# Altium integrated library Actel eX.IntLib: 55 symbols (part 3 of 3)
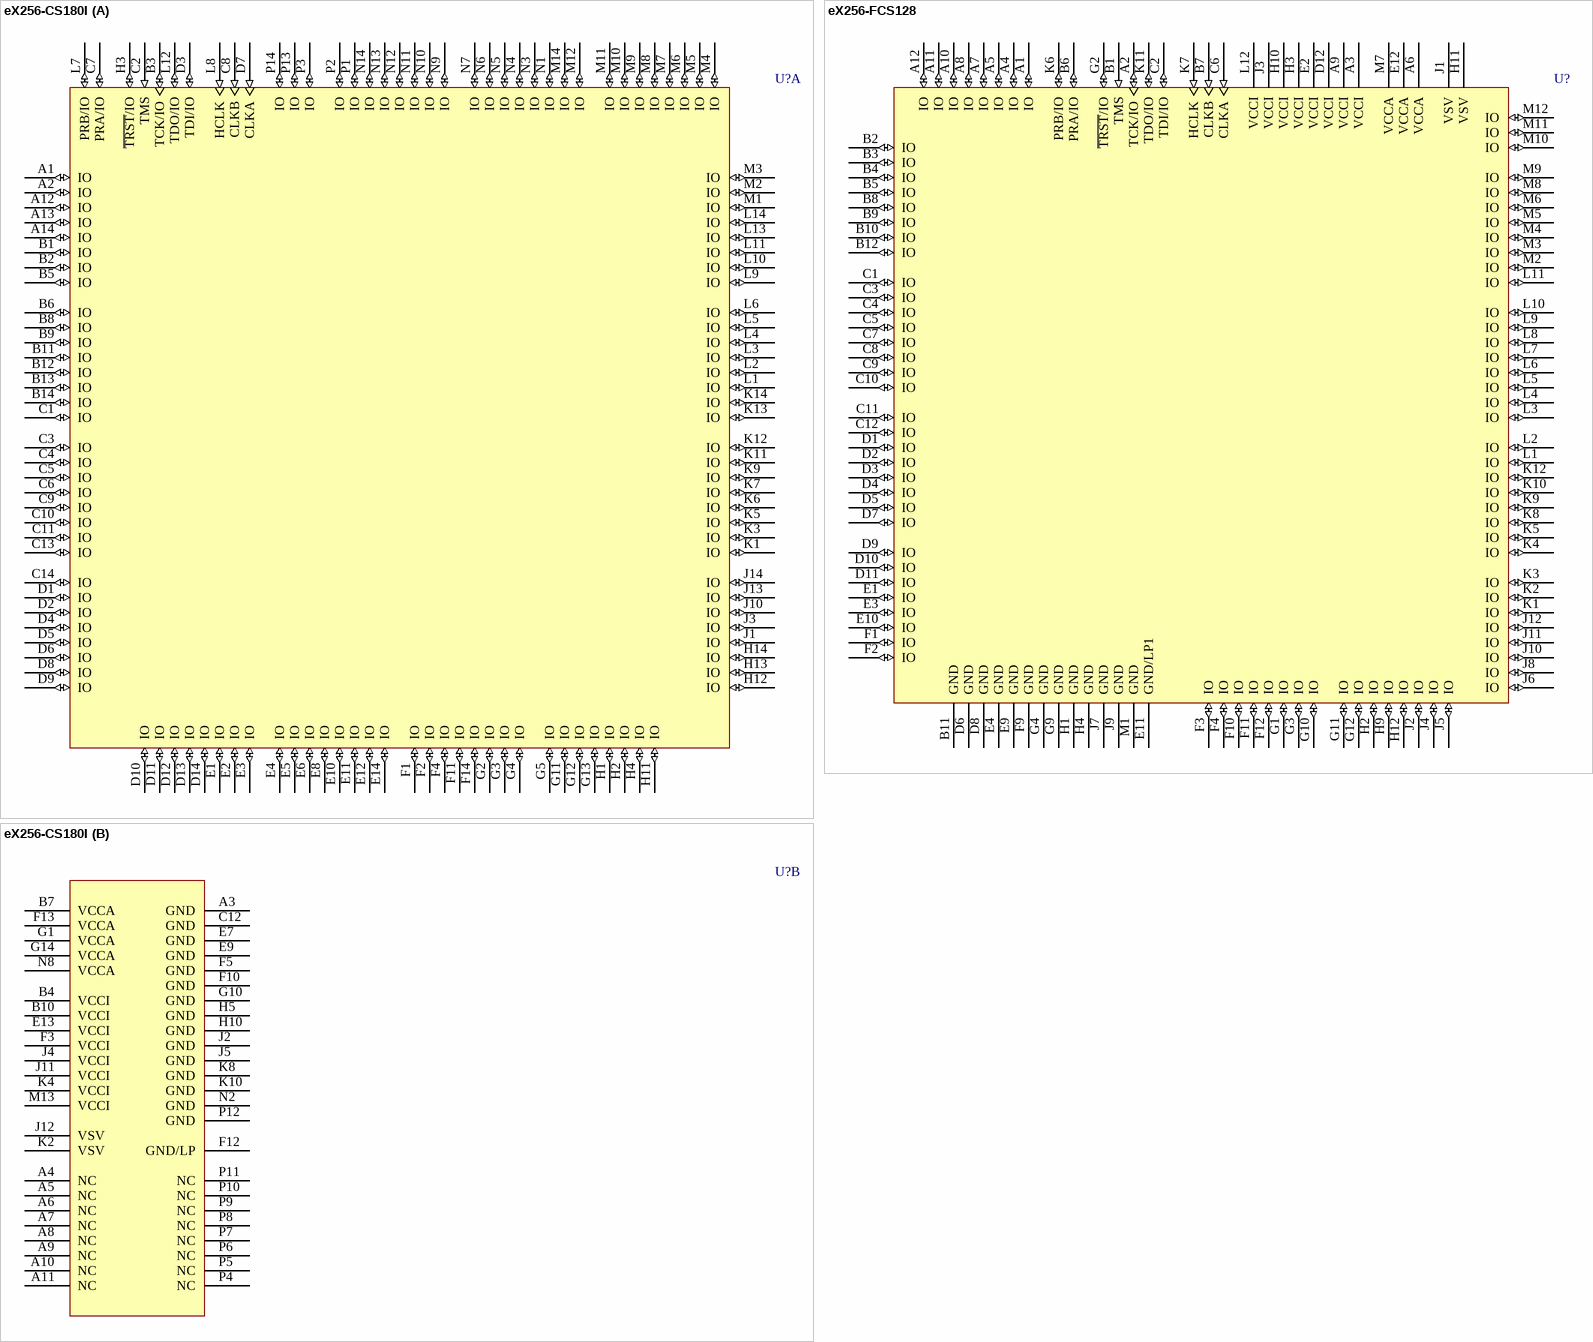
[diagram p17: symbols eX256-CS180I to eX256-FCS128]

## eX256-CS180I
designator U?
eX256 FPGA, 132 User IOs, 180-Pin CSP, Speed Grade Standard, Industrial Grade; Note: The VSV pin can be tied to VCCA or VCCI but cannot exceed 3.6V.; Note: If the security fuse is programmed, the VSV limit is extended to 6.0V.; Published: 21-May-2003; LatestRevisionDate: 13-Apr-2006; LatestRevisionNote: IPC-7351 Footprint Added.; DatasheetVersion: Dec-2001; PackageVersion: v9.2, Apr-2006; PackageReference: CS180; Publisher: Altium Limited; PackageDescription: 180-Ball Chip Scale Package (CS180); Code_JEDEC: MO-205-BF; ComponentLink1Description: Manufacturer Link; ComponentLink1URL: http://www.actel.com/products/ex/index.html; ComponentLink2Description: Datasheet; ComponentLink2URL: http://www.actel.com/documents/eXDS.pdf
footprint CS180 (BGA, 180-Leads, Body 13x13mm, Pitch 0.8mm)
3D model eX256-CS180 (180-Ball Chip Scale Package (CS180))
part A pins: A1 IO (io), A2 IO (io), A12 IO (io), A13 IO (io), A14 IO (io), B1 IO (io), B2 IO (io), B3 TCK/IO (io), B5 IO (io), B6 IO (io), B8 IO (io), B9 IO (io), B11 IO (io), B12 IO (io), B13 IO (io), B14 IO (io), C1 IO (io), C2 TMS (in), C3 IO (io), C4 IO (io), C5 IO (io), C6 IO (io), C7 PRA/IO (io), C8 CLKB (in), C9 IO (io), C10 IO (io), C11 IO (io), C13 IO (io), C14 IO (io), D1 IO (io), D2 IO (io), D3 TDI/IO (io), D4 IO (io), D5 IO (io), D6 IO (io), D7 CLKA (in), D8 IO (io), D9 IO (io), D10 IO (io), D11 IO (io), D12 IO (io), D13 IO (io), D14 IO (io), E1 IO (io), E2 IO (io), E3 IO (io), E4 IO (io), E5 IO (io), E6 IO (io), E8 IO (io), E10 IO (io), E11 IO (io), E12 IO (io), E14 IO (io), F1 IO (io), F2 IO (io), F4 IO (io), F11 IO (io), F14 IO (io), G2 IO (io), G3 IO (io), G4 IO (io), G5 IO (io), G11 IO (io), G12 IO (io), G13 IO (io), H1 IO (io), H2 IO (io), H3 ~{TRST}/IO (io), H4 IO (io), H11 IO (io), H12 IO (io), H13 IO (io), H14 IO (io), J1 IO (io), J3 IO (io), J10 IO (io), J13 IO (io), J14 IO (io), K1 IO (io), K3 IO (io), K5 IO (io), K6 IO (io), K7 IO (io), K9 IO (io), K11 IO (io), K12 IO (io), K13 IO (io), K14 IO (io), L1 IO (io), L2 IO (io), L3 IO (io), L4 IO (io), L5 IO (io), L6 IO (io), L7 PRB/IO (io), L8 HCLK (in), L9 IO (io), L10 IO (io), L11 IO (io), L12 TDO/IO (io), L13 IO (io), L14 IO (io), M1 IO (io), M2 IO (io), M3 IO (io), M4 IO (io), M5 IO (io), M6 IO (io), M7 IO (io), M8 IO (io), M9 IO (io), M10 IO (io), M11 IO (io), M12 IO (io), M14 IO (io), N1 IO (io), N3 IO (io), N4 IO (io), N5 IO (io), N6 IO (io), N7 IO (io), N9 IO (io), N10 IO (io), N11 IO (io), N12 IO (io), N13 IO (io), N14 IO (io), P1 IO (io), P2 IO (io), P3 IO (io), P13 IO (io), P14 IO (io)
part B pins: A3 GND (power), A4 NC, A5 NC, A6 NC, A7 NC, A8 NC, A9 NC, A10 NC, A11 NC, B4 VCCI (power), B7 VCCA (power), B10 VCCI (power), C12 GND (power), E7 GND (power), E9 GND (power), E13 VCCI (power), F3 VCCI (power), F5 GND (power), F10 GND (power), F12 GND/LP (power), F13 VCCA (power), G1 VCCA (power), G10 GND (power), G14 VCCA (power), H5 GND (power), H10 GND (power), J2 GND (power), J4 VCCI (power), J5 GND (power), J11 VCCI (power), J12 VSV (power), K2 VSV (power), K4 VCCI (power), K8 GND (power), K10 GND (power), M13 VCCI (power), N2 GND (power), N8 VCCA (power), P4 NC, P5 NC, P6 NC, P7 NC, P8 NC, P9 NC, P10 NC, P11 NC, P12 GND (power)

## eX256-FCS128
designator U?
eX256 FPGA, 100 User IOs, 128-Pin CSP, Speed Grade F, Commercial Grade; Note: The VSV pin can be tied to VCCA or VCCI but cannot exceed 3.6V.; Note: If the security fuse is programmed, the VSV limit is extended to 6.0V.; Published: 21-May-2003; LatestRevisionDate: 13-Apr-2006; LatestRevisionNote: IPC-7351 Footprint Added.; DatasheetVersion: Dec-2001; PackageVersion: v9.2, Apr-2006; PackageReference: CS128; Publisher: Altium Limited; PackageDescription: 128-Ball Chip Scale Package (CS128); Code_JEDEC: MO-205-BD; ComponentLink1Description: Manufacturer Link; ComponentLink1URL: http://www.actel.com/products/ex/index.html; ComponentLink2Description: Datasheet; ComponentLink2URL: http://www.actel.com/documents/eXDS.pdf
footprint CS128 (BGA, 128-Leads, Body 11x11mm, Pitch 0.8mm)
3D model eX256-CS128 (128-Ball Chip Scale Package (CS128))
pins: A1 IO (io), A2 TCK/IO (io), A3 VCCI (power), A4 IO (io), A5 IO (io), A6 VCCA (power), A7 IO (io), A8 IO (io), A9 VCCI (power), A10 IO (io), A11 IO (io), A12 IO (io), B1 TMS (in), B2 IO (io), B3 IO (io), B4 IO (io), B5 IO (io), B6 PRA/IO (io), B7 CLKB (in), B8 IO (io), B9 IO (io), B10 IO (io), B11 GND (power), B12 IO (io), C1 IO (io), C2 TDI/IO (io), C3 IO (io), C4 IO (io), C5 IO (io), C6 CLKA (in), C7 IO (io), C8 IO (io), C9 IO (io), C10 IO (io), C11 IO (io), C12 IO (io), D1 IO (io), D2 IO (io), D3 IO (io), D4 IO (io), D5 IO (io), D6 GND (power), D7 IO (io), D8 GND (power), D9 IO (io), D10 IO (io), D11 IO (io), D12 VCCI (power), E1 IO (io), E2 VCCI (power), E3 IO (io), E4 GND (power), E9 GND (power), E10 IO (io), E11 GND/LP1 (power), E12 VCCA (power), F1 IO (io), F2 IO (io), F3 IO (io), F4 IO (io), F9 GND (power), F10 IO (io), F11 IO (io), F12 IO (io), G1 IO (io), G2 ~{TRST}/IO (io), G3 IO (io), G4 GND (power), G9 GND (power), G10 IO (io), G11 IO (io), G12 IO (io), H1 GND (power), H2 IO (io), H3 VCCI (power), H4 GND (power), H9 IO (io), H10 VCCI (power), H11 VSV (power), H12 IO (io), J1 VSV (power), J2 IO (io), J3 VCCI (power), J4 IO (io), J5 IO (io), J6 IO (io), J7 GND (power), J8 IO (io), J9 GND (power), J10 IO (io), J11 IO (io), J12 IO (io), K1 IO (io), K2 IO (io), K3 IO (io), K4 IO (io), K5 IO (io), K6 PRB/IO (io), K7 HCLK (in), K8 IO (io), K9 IO (io), K10 IO (io), K11 TDO/IO (io), K12 IO (io), L1 IO (io), L2 IO (io), L3 IO (io), L4 IO (io), L5 IO (io), L6 IO (io), L7 IO (io), L8 IO (io), L9 IO (io), L10 IO (io), L11 IO (io), L12 VCCI (power), M1 GND (power), M2 IO (io), M3 IO (io), M4 IO (io), M5 IO (io), M6 IO (io), M7 VCCA (power), M8 IO (io), M9 IO (io), M10 IO (io), M11 IO (io), M12 IO (io)

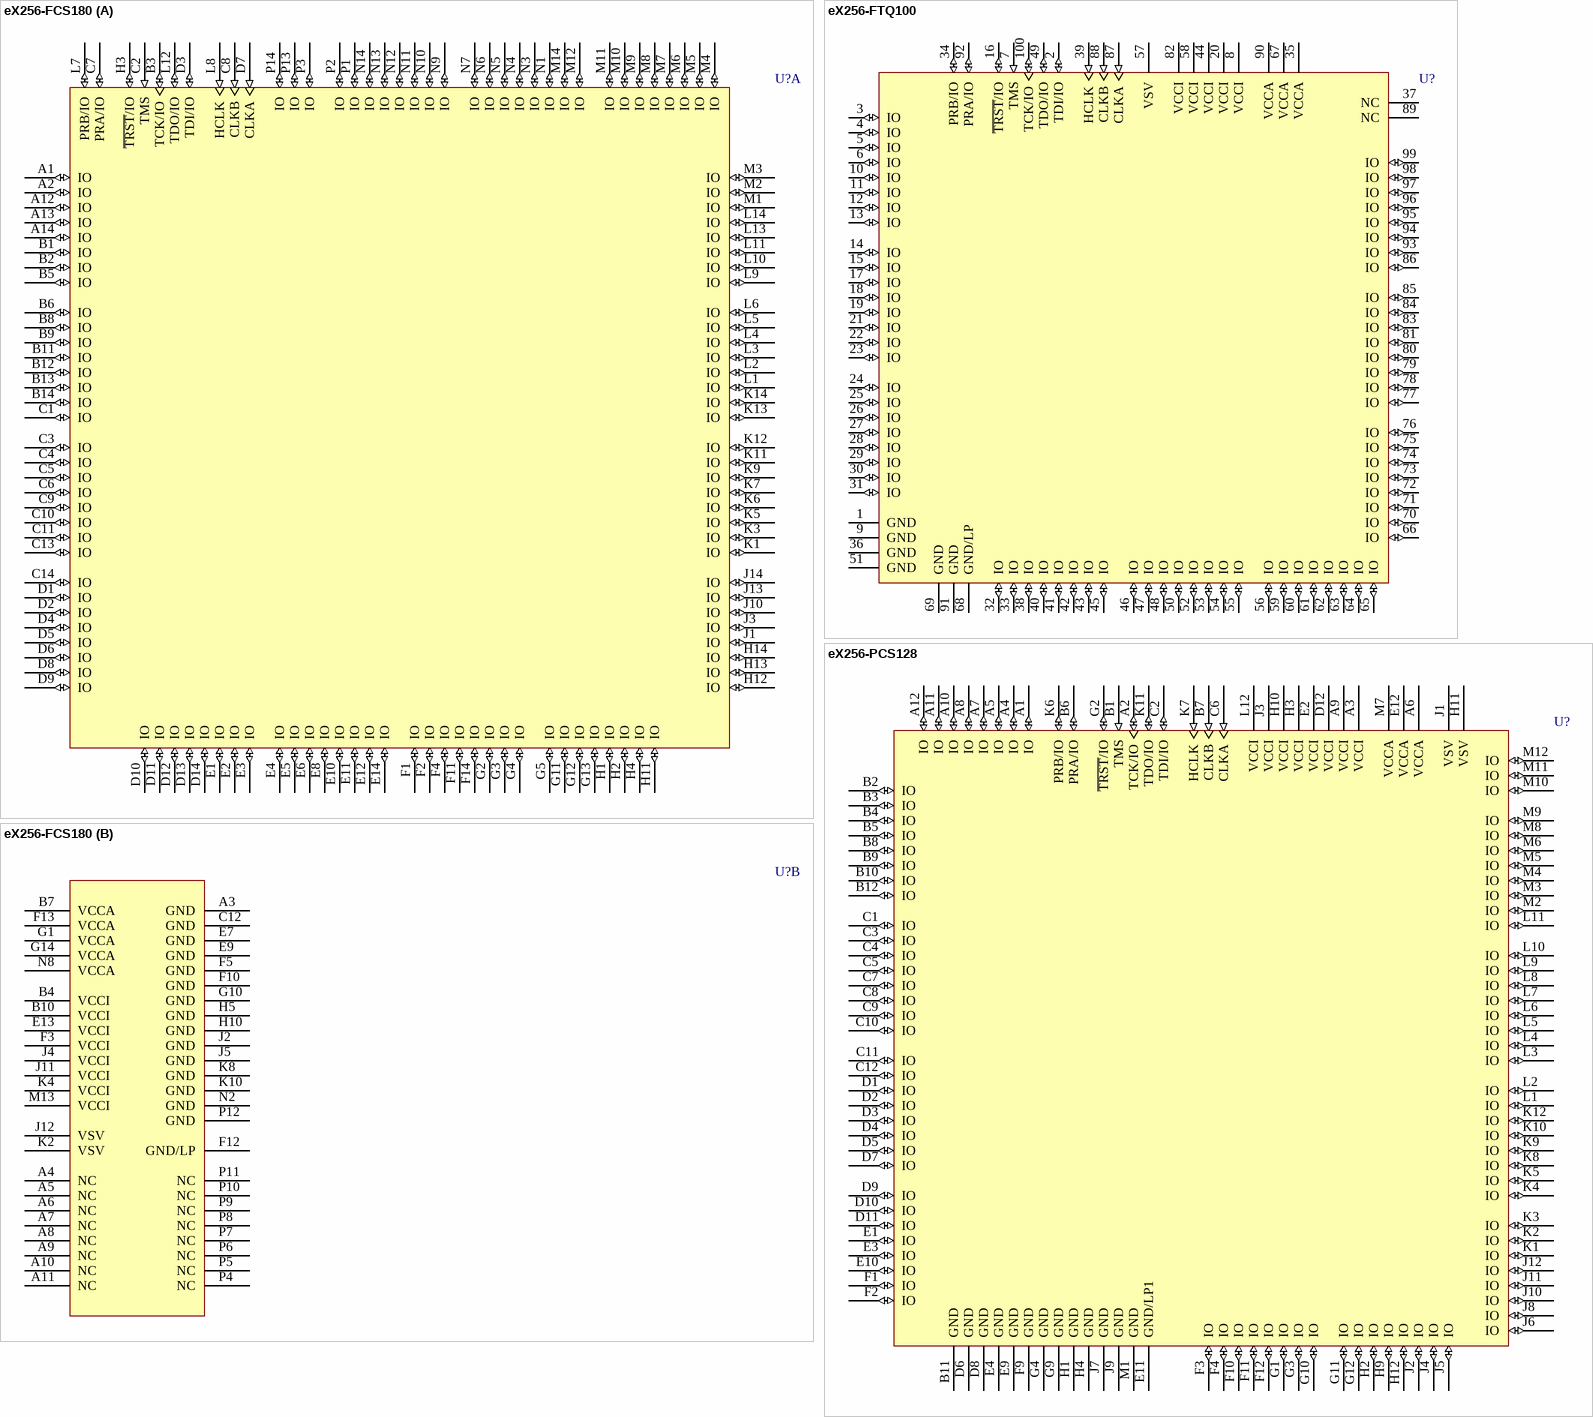
[diagram p13: symbols eX256-FCS180 to eX256-PCS128]

## eX256-FCS180
designator U?
eX256 FPGA, 132 User IOs, 180-Pin CSP, Speed Grade F, Commercial Grade; Note: The VSV pin can be tied to VCCA or VCCI but cannot exceed 3.6V.; Note: If the security fuse is programmed, the VSV limit is extended to 6.0V.; Published: 21-May-2003; LatestRevisionDate: 13-Apr-2006; LatestRevisionNote: IPC-7351 Footprint Added.; DatasheetVersion: Dec-2001; PackageVersion: v9.2, Apr-2006; PackageReference: CS180; Publisher: Altium Limited; PackageDescription: 180-Ball Chip Scale Package (CS180); Code_JEDEC: MO-205-BF; ComponentLink1Description: Manufacturer Link; ComponentLink1URL: http://www.actel.com/products/ex/index.html; ComponentLink2Description: Datasheet; ComponentLink2URL: http://www.actel.com/documents/eXDS.pdf
footprint CS180 (BGA, 180-Leads, Body 13x13mm, Pitch 0.8mm)
3D model eX256-CS180 (180-Ball Chip Scale Package (CS180))
part A pins: A1 IO (io), A2 IO (io), A12 IO (io), A13 IO (io), A14 IO (io), B1 IO (io), B2 IO (io), B3 TCK/IO (io), B5 IO (io), B6 IO (io), B8 IO (io), B9 IO (io), B11 IO (io), B12 IO (io), B13 IO (io), B14 IO (io), C1 IO (io), C2 TMS (in), C3 IO (io), C4 IO (io), C5 IO (io), C6 IO (io), C7 PRA/IO (io), C8 CLKB (in), C9 IO (io), C10 IO (io), C11 IO (io), C13 IO (io), C14 IO (io), D1 IO (io), D2 IO (io), D3 TDI/IO (io), D4 IO (io), D5 IO (io), D6 IO (io), D7 CLKA (in), D8 IO (io), D9 IO (io), D10 IO (io), D11 IO (io), D12 IO (io), D13 IO (io), D14 IO (io), E1 IO (io), E2 IO (io), E3 IO (io), E4 IO (io), E5 IO (io), E6 IO (io), E8 IO (io), E10 IO (io), E11 IO (io), E12 IO (io), E14 IO (io), F1 IO (io), F2 IO (io), F4 IO (io), F11 IO (io), F14 IO (io), G2 IO (io), G3 IO (io), G4 IO (io), G5 IO (io), G11 IO (io), G12 IO (io), G13 IO (io), H1 IO (io), H2 IO (io), H3 ~{TRST}/IO (io), H4 IO (io), H11 IO (io), H12 IO (io), H13 IO (io), H14 IO (io), J1 IO (io), J3 IO (io), J10 IO (io), J13 IO (io), J14 IO (io), K1 IO (io), K3 IO (io), K5 IO (io), K6 IO (io), K7 IO (io), K9 IO (io), K11 IO (io), K12 IO (io), K13 IO (io), K14 IO (io), L1 IO (io), L2 IO (io), L3 IO (io), L4 IO (io), L5 IO (io), L6 IO (io), L7 PRB/IO (io), L8 HCLK (in), L9 IO (io), L10 IO (io), L11 IO (io), L12 TDO/IO (io), L13 IO (io), L14 IO (io), M1 IO (io), M2 IO (io), M3 IO (io), M4 IO (io), M5 IO (io), M6 IO (io), M7 IO (io), M8 IO (io), M9 IO (io), M10 IO (io), M11 IO (io), M12 IO (io), M14 IO (io), N1 IO (io), N3 IO (io), N4 IO (io), N5 IO (io), N6 IO (io), N7 IO (io), N9 IO (io), N10 IO (io), N11 IO (io), N12 IO (io), N13 IO (io), N14 IO (io), P1 IO (io), P2 IO (io), P3 IO (io), P13 IO (io), P14 IO (io)
part B pins: A3 GND (power), A4 NC, A5 NC, A6 NC, A7 NC, A8 NC, A9 NC, A10 NC, A11 NC, B4 VCCI (power), B7 VCCA (power), B10 VCCI (power), C12 GND (power), E7 GND (power), E9 GND (power), E13 VCCI (power), F3 VCCI (power), F5 GND (power), F10 GND (power), F12 GND/LP (power), F13 VCCA (power), G1 VCCA (power), G10 GND (power), G14 VCCA (power), H5 GND (power), H10 GND (power), J2 GND (power), J4 VCCI (power), J5 GND (power), J11 VCCI (power), J12 VSV (power), K2 VSV (power), K4 VCCI (power), K8 GND (power), K10 GND (power), M13 VCCI (power), N2 GND (power), N8 VCCA (power), P4 NC, P5 NC, P6 NC, P7 NC, P8 NC, P9 NC, P10 NC, P11 NC, P12 GND (power)

## eX256-FTQ100
designator U?
eX256 FPGA, 81 User IOs, 100-Pin TQFP, Speed Grade F, Commercial Grade; Note: The VSV pin can be tied to VCCA or VCCI but cannot exceed 3.6V.; Note: If the security fuse is programmed, the VSV limit is extended to 6.0V.; Published: 21-May-2003; LatestRevisionDate: 13-Apr-2006; LatestRevisionNote: IPC-7351 Footprint Added.; DatasheetVersion: Dec-2001; PackageVersion: v9.2, Apr-2006; PackageReference: TQ100; Publisher: Altium Limited; PackageDescription: 100-Pin Plastic Quad Flat Pack (TQ100); Code_JEDEC: MS-026-BED; ComponentLink1Description: Manufacturer Link; ComponentLink1URL: http://www.actel.com/products/ex/index.html; ComponentLink2Description: Datasheet; ComponentLink2URL: http://www.actel.com/documents/eXDS.pdf
footprint TQ100_N (Thin QFP, 100-Leads, Body 14x14mm, Pitch 0.5mm, IPC Medium Density)
footprint TQ100_L (Thin QFP, 100-Leads, Body 14x14mm, Pitch 0.5mm, IPC High Density)
footprint TQ100_M (Thin QFP, 100-Leads, Body 14x14mm, Pitch 0.5mm, IPC Low Density)
3D model eX256-TQ100 (100-Pin Plastic Quad Flat Pack (TQ100))
pins: 1 GND (power), 2 TDI/IO (io), 3 IO (io), 4 IO (io), 5 IO (io), 6 IO (io), 7 TMS (in), 8 VCCI (power), 9 GND (power), 10 IO (io), 11 IO (io), 12 IO (io), 13 IO (io), 14 IO (io), 15 IO (io), 16 ~{TRST}/IO (io), 17 IO (io), 18 IO (io), 19 IO (io), 20 VCCI (power), 21 IO (io), 22 IO (io), 23 IO (io), 24 IO (io), 25 IO (io), 26 IO (io), 27 IO (io), 28 IO (io), 29 IO (io), 30 IO (io), 31 IO (io), 32 IO (io), 33 IO (io), 34 PRB/IO (io), 35 VCCA (power), 36 GND (power), 37 NC, 38 IO (io), 39 HCLK (in), 40 IO (io), 41 IO (io), 42 IO (io), 43 IO (io), 44 VCCI (power), 45 IO (io), 46 IO (io), 47 IO (io), 48 IO (io), 49 TDO/IO (io), 50 IO (io), 51 GND (power), 52 IO (io), 53 IO (io), 54 IO (io), 55 IO (io), 56 IO (io), 57 VSV (power), 58 VCCI (power), 59 IO (io), 60 IO (io), 61 IO (io), 62 IO (io), 63 IO (io), 64 IO (io), 65 IO (io), 66 IO (io), 67 VCCA (power), 68 GND/LP (power), 69 GND (power), 70 IO (io), 71 IO (io), 72 IO (io), 73 IO (io), 74 IO (io), 75 IO (io), 76 IO (io), 77 IO (io), 78 IO (io), 79 IO (io), 80 IO (io), 81 IO (io), 82 VCCI (power), 83 IO (io), 84 IO (io), 85 IO (io), 86 IO (io), 87 CLKA (in), 88 CLKB (in), 89 NC, 90 VCCA (power), 91 GND (power), 92 PRA/IO (io), 93 IO (io), 94 IO (io), 95 IO (io), 96 IO (io), 97 IO (io), 98 IO (io), 99 IO (io), 100 TCK/IO (io)

## eX256-PCS128
designator U?
eX256 FPGA, 100 User IOs, 128-Pin CSP, Speed Grade P, Commercial Grade; Note: The VSV pin can be tied to VCCA or VCCI but cannot exceed 3.6V.; Note: If the security fuse is programmed, the VSV limit is extended to 6.0V.; Published: 21-May-2003; LatestRevisionDate: 13-Apr-2006; LatestRevisionNote: IPC-7351 Footprint Added.; DatasheetVersion: Dec-2001; PackageVersion: v9.2, Apr-2006; PackageReference: CS128; Publisher: Altium Limited; PackageDescription: 128-Ball Chip Scale Package (CS128); Code_JEDEC: MO-205-BD; ComponentLink1Description: Manufacturer Link; ComponentLink1URL: http://www.actel.com/products/ex/index.html; ComponentLink2Description: Datasheet; ComponentLink2URL: http://www.actel.com/documents/eXDS.pdf
footprint CS128 (BGA, 128-Leads, Body 11x11mm, Pitch 0.8mm)
3D model eX256-CS128 (128-Ball Chip Scale Package (CS128))
pins: A1 IO (io), A2 TCK/IO (io), A3 VCCI (power), A4 IO (io), A5 IO (io), A6 VCCA (power), A7 IO (io), A8 IO (io), A9 VCCI (power), A10 IO (io), A11 IO (io), A12 IO (io), B1 TMS (in), B2 IO (io), B3 IO (io), B4 IO (io), B5 IO (io), B6 PRA/IO (io), B7 CLKB (in), B8 IO (io), B9 IO (io), B10 IO (io), B11 GND (power), B12 IO (io), C1 IO (io), C2 TDI/IO (io), C3 IO (io), C4 IO (io), C5 IO (io), C6 CLKA (in), C7 IO (io), C8 IO (io), C9 IO (io), C10 IO (io), C11 IO (io), C12 IO (io), D1 IO (io), D2 IO (io), D3 IO (io), D4 IO (io), D5 IO (io), D6 GND (power), D7 IO (io), D8 GND (power), D9 IO (io), D10 IO (io), D11 IO (io), D12 VCCI (power), E1 IO (io), E2 VCCI (power), E3 IO (io), E4 GND (power), E9 GND (power), E10 IO (io), E11 GND/LP1 (power), E12 VCCA (power), F1 IO (io), F2 IO (io), F3 IO (io), F4 IO (io), F9 GND (power), F10 IO (io), F11 IO (io), F12 IO (io), G1 IO (io), G2 ~{TRST}/IO (io), G3 IO (io), G4 GND (power), G9 GND (power), G10 IO (io), G11 IO (io), G12 IO (io), H1 GND (power), H2 IO (io), H3 VCCI (power), H4 GND (power), H9 IO (io), H10 VCCI (power), H11 VSV (power), H12 IO (io), J1 VSV (power), J2 IO (io), J3 VCCI (power), J4 IO (io), J5 IO (io), J6 IO (io), J7 GND (power), J8 IO (io), J9 GND (power), J10 IO (io), J11 IO (io), J12 IO (io), K1 IO (io), K2 IO (io), K3 IO (io), K4 IO (io), K5 IO (io), K6 PRB/IO (io), K7 HCLK (in), K8 IO (io), K9 IO (io), K10 IO (io), K11 TDO/IO (io), K12 IO (io), L1 IO (io), L2 IO (io), L3 IO (io), L4 IO (io), L5 IO (io), L6 IO (io), L7 IO (io), L8 IO (io), L9 IO (io), L10 IO (io), L11 IO (io), L12 VCCI (power), M1 GND (power), M2 IO (io), M3 IO (io), M4 IO (io), M5 IO (io), M6 IO (io), M7 VCCA (power), M8 IO (io), M9 IO (io), M10 IO (io), M11 IO (io), M12 IO (io)

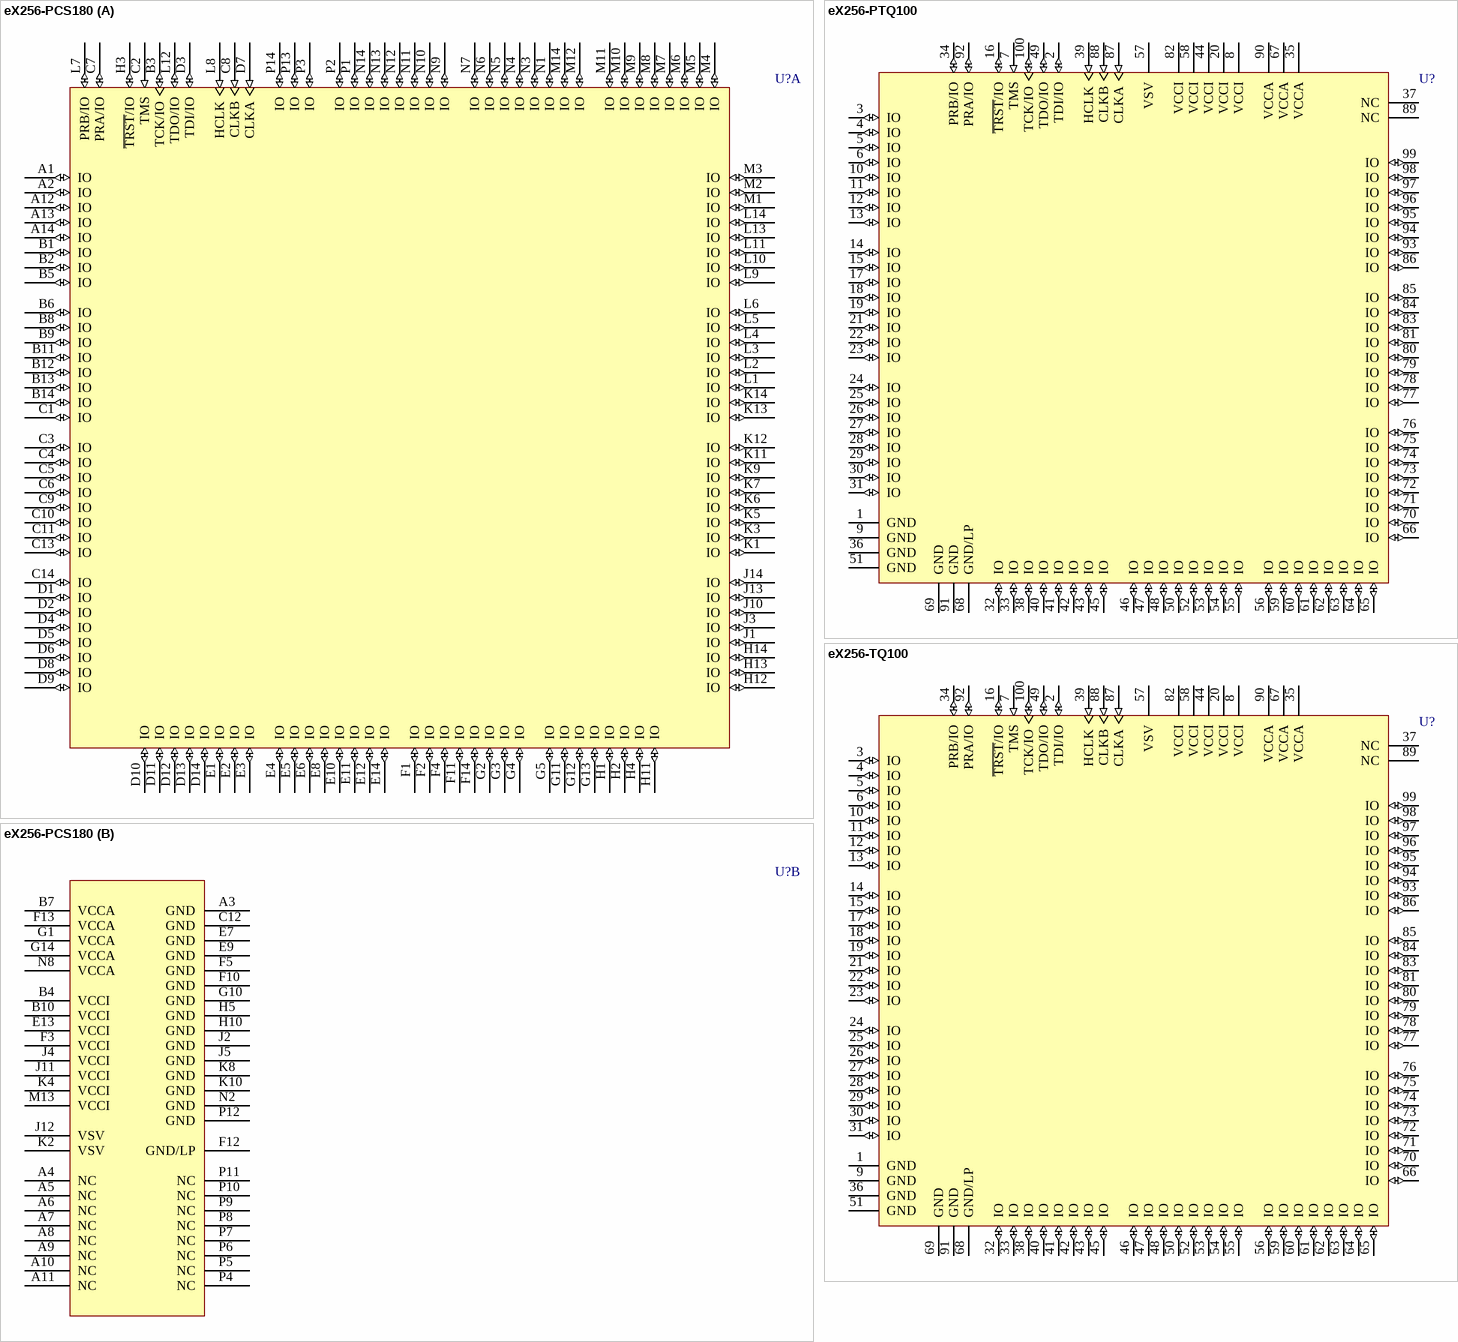
[diagram p14: symbols eX256-PCS180 to eX256-TQ100]

## eX256-PCS180
designator U?
eX256 FPGA, 132 User IOs, 180-Pin CSP, Speed Grade P, Commercial Grade; Note: The VSV pin can be tied to VCCA or VCCI but cannot exceed 3.6V.; Note: If the security fuse is programmed, the VSV limit is extended to 6.0V.; Published: 21-May-2003; LatestRevisionDate: 13-Apr-2006; LatestRevisionNote: IPC-7351 Footprint Added.; DatasheetVersion: Dec-2001; PackageVersion: v9.2, Apr-2006; PackageReference: CS180; Publisher: Altium Limited; PackageDescription: 180-Ball Chip Scale Package (CS180); Code_JEDEC: MO-205-BF; ComponentLink1Description: Manufacturer Link; ComponentLink1URL: http://www.actel.com/products/ex/index.html; ComponentLink2Description: Datasheet; ComponentLink2URL: http://www.actel.com/documents/eXDS.pdf
footprint CS180 (BGA, 180-Leads, Body 13x13mm, Pitch 0.8mm)
3D model eX256-CS180 (180-Ball Chip Scale Package (CS180))
part A pins: A1 IO (io), A2 IO (io), A12 IO (io), A13 IO (io), A14 IO (io), B1 IO (io), B2 IO (io), B3 TCK/IO (io), B5 IO (io), B6 IO (io), B8 IO (io), B9 IO (io), B11 IO (io), B12 IO (io), B13 IO (io), B14 IO (io), C1 IO (io), C2 TMS (in), C3 IO (io), C4 IO (io), C5 IO (io), C6 IO (io), C7 PRA/IO (io), C8 CLKB (in), C9 IO (io), C10 IO (io), C11 IO (io), C13 IO (io), C14 IO (io), D1 IO (io), D2 IO (io), D3 TDI/IO (io), D4 IO (io), D5 IO (io), D6 IO (io), D7 CLKA (in), D8 IO (io), D9 IO (io), D10 IO (io), D11 IO (io), D12 IO (io), D13 IO (io), D14 IO (io), E1 IO (io), E2 IO (io), E3 IO (io), E4 IO (io), E5 IO (io), E6 IO (io), E8 IO (io), E10 IO (io), E11 IO (io), E12 IO (io), E14 IO (io), F1 IO (io), F2 IO (io), F4 IO (io), F11 IO (io), F14 IO (io), G2 IO (io), G3 IO (io), G4 IO (io), G5 IO (io), G11 IO (io), G12 IO (io), G13 IO (io), H1 IO (io), H2 IO (io), H3 ~{TRST}/IO (io), H4 IO (io), H11 IO (io), H12 IO (io), H13 IO (io), H14 IO (io), J1 IO (io), J3 IO (io), J10 IO (io), J13 IO (io), J14 IO (io), K1 IO (io), K3 IO (io), K5 IO (io), K6 IO (io), K7 IO (io), K9 IO (io), K11 IO (io), K12 IO (io), K13 IO (io), K14 IO (io), L1 IO (io), L2 IO (io), L3 IO (io), L4 IO (io), L5 IO (io), L6 IO (io), L7 PRB/IO (io), L8 HCLK (in), L9 IO (io), L10 IO (io), L11 IO (io), L12 TDO/IO (io), L13 IO (io), L14 IO (io), M1 IO (io), M2 IO (io), M3 IO (io), M4 IO (io), M5 IO (io), M6 IO (io), M7 IO (io), M8 IO (io), M9 IO (io), M10 IO (io), M11 IO (io), M12 IO (io), M14 IO (io), N1 IO (io), N3 IO (io), N4 IO (io), N5 IO (io), N6 IO (io), N7 IO (io), N9 IO (io), N10 IO (io), N11 IO (io), N12 IO (io), N13 IO (io), N14 IO (io), P1 IO (io), P2 IO (io), P3 IO (io), P13 IO (io), P14 IO (io)
part B pins: A3 GND (power), A4 NC, A5 NC, A6 NC, A7 NC, A8 NC, A9 NC, A10 NC, A11 NC, B4 VCCI (power), B7 VCCA (power), B10 VCCI (power), C12 GND (power), E7 GND (power), E9 GND (power), E13 VCCI (power), F3 VCCI (power), F5 GND (power), F10 GND (power), F12 GND/LP (power), F13 VCCA (power), G1 VCCA (power), G10 GND (power), G14 VCCA (power), H5 GND (power), H10 GND (power), J2 GND (power), J4 VCCI (power), J5 GND (power), J11 VCCI (power), J12 VSV (power), K2 VSV (power), K4 VCCI (power), K8 GND (power), K10 GND (power), M13 VCCI (power), N2 GND (power), N8 VCCA (power), P4 NC, P5 NC, P6 NC, P7 NC, P8 NC, P9 NC, P10 NC, P11 NC, P12 GND (power)

## eX256-PTQ100
designator U?
eX256 FPGA, 81 User IOs, 100-Pin TQFP, Speed Grade P, Commercial Grade; Note: The VSV pin can be tied to VCCA or VCCI but cannot exceed 3.6V.; Note: If the security fuse is programmed, the VSV limit is extended to 6.0V.; Published: 21-May-2003; LatestRevisionDate: 13-Apr-2006; LatestRevisionNote: IPC-7351 Footprint Added.; DatasheetVersion: Dec-2001; PackageVersion: v9.2, Apr-2006; PackageReference: TQ100; Publisher: Altium Limited; PackageDescription: 100-Pin Plastic Quad Flat Pack (TQ100); Code_JEDEC: MS-026-BED; ComponentLink1Description: Manufacturer Link; ComponentLink1URL: http://www.actel.com/products/ex/index.html; ComponentLink2Description: Datasheet; ComponentLink2URL: http://www.actel.com/documents/eXDS.pdf
footprint TQ100_N (Thin QFP, 100-Leads, Body 14x14mm, Pitch 0.5mm, IPC Medium Density)
footprint TQ100_L (Thin QFP, 100-Leads, Body 14x14mm, Pitch 0.5mm, IPC High Density)
footprint TQ100_M (Thin QFP, 100-Leads, Body 14x14mm, Pitch 0.5mm, IPC Low Density)
3D model eX256-TQ100 (100-Pin Plastic Quad Flat Pack (TQ100))
pins: 1 GND (power), 2 TDI/IO (io), 3 IO (io), 4 IO (io), 5 IO (io), 6 IO (io), 7 TMS (in), 8 VCCI (power), 9 GND (power), 10 IO (io), 11 IO (io), 12 IO (io), 13 IO (io), 14 IO (io), 15 IO (io), 16 ~{TRST}/IO (io), 17 IO (io), 18 IO (io), 19 IO (io), 20 VCCI (power), 21 IO (io), 22 IO (io), 23 IO (io), 24 IO (io), 25 IO (io), 26 IO (io), 27 IO (io), 28 IO (io), 29 IO (io), 30 IO (io), 31 IO (io), 32 IO (io), 33 IO (io), 34 PRB/IO (io), 35 VCCA (power), 36 GND (power), 37 NC, 38 IO (io), 39 HCLK (in), 40 IO (io), 41 IO (io), 42 IO (io), 43 IO (io), 44 VCCI (power), 45 IO (io), 46 IO (io), 47 IO (io), 48 IO (io), 49 TDO/IO (io), 50 IO (io), 51 GND (power), 52 IO (io), 53 IO (io), 54 IO (io), 55 IO (io), 56 IO (io), 57 VSV (power), 58 VCCI (power), 59 IO (io), 60 IO (io), 61 IO (io), 62 IO (io), 63 IO (io), 64 IO (io), 65 IO (io), 66 IO (io), 67 VCCA (power), 68 GND/LP (power), 69 GND (power), 70 IO (io), 71 IO (io), 72 IO (io), 73 IO (io), 74 IO (io), 75 IO (io), 76 IO (io), 77 IO (io), 78 IO (io), 79 IO (io), 80 IO (io), 81 IO (io), 82 VCCI (power), 83 IO (io), 84 IO (io), 85 IO (io), 86 IO (io), 87 CLKA (in), 88 CLKB (in), 89 NC, 90 VCCA (power), 91 GND (power), 92 PRA/IO (io), 93 IO (io), 94 IO (io), 95 IO (io), 96 IO (io), 97 IO (io), 98 IO (io), 99 IO (io), 100 TCK/IO (io)

## eX256-TQ100
designator U?
eX256 FPGA, 81 User IOs, 100-Pin TQFP, Speed Grade Standard, Commercial Grade; Note: The VSV pin can be tied to VCCA or VCCI but cannot exceed 3.6V.; Note: If the security fuse is programmed, the VSV limit is extended to 6.0V.; Published: 21-May-2003; LatestRevisionDate: 13-Apr-2006; LatestRevisionNote: IPC-7351 Footprint Added.; DatasheetVersion: Dec-2001; PackageVersion: v9.2, Apr-2006; PackageReference: TQ100; Publisher: Altium Limited; PackageDescription: 100-Pin Plastic Quad Flat Pack (TQ100); Code_JEDEC: MS-026-BED; ComponentLink1Description: Manufacturer Link; ComponentLink1URL: http://www.actel.com/products/ex/index.html; ComponentLink2Description: Datasheet; ComponentLink2URL: http://www.actel.com/documents/eXDS.pdf
footprint TQ100_N (Thin QFP, 100-Leads, Body 14x14mm, Pitch 0.5mm, IPC Medium Density)
footprint TQ100_L (Thin QFP, 100-Leads, Body 14x14mm, Pitch 0.5mm, IPC High Density)
footprint TQ100_M (Thin QFP, 100-Leads, Body 14x14mm, Pitch 0.5mm, IPC Low Density)
3D model eX256-TQ100 (100-Pin Plastic Quad Flat Pack (TQ100))
pins: 1 GND (power), 2 TDI/IO (io), 3 IO (io), 4 IO (io), 5 IO (io), 6 IO (io), 7 TMS (in), 8 VCCI (power), 9 GND (power), 10 IO (io), 11 IO (io), 12 IO (io), 13 IO (io), 14 IO (io), 15 IO (io), 16 ~{TRST}/IO (io), 17 IO (io), 18 IO (io), 19 IO (io), 20 VCCI (power), 21 IO (io), 22 IO (io), 23 IO (io), 24 IO (io), 25 IO (io), 26 IO (io), 27 IO (io), 28 IO (io), 29 IO (io), 30 IO (io), 31 IO (io), 32 IO (io), 33 IO (io), 34 PRB/IO (io), 35 VCCA (power), 36 GND (power), 37 NC, 38 IO (io), 39 HCLK (in), 40 IO (io), 41 IO (io), 42 IO (io), 43 IO (io), 44 VCCI (power), 45 IO (io), 46 IO (io), 47 IO (io), 48 IO (io), 49 TDO/IO (io), 50 IO (io), 51 GND (power), 52 IO (io), 53 IO (io), 54 IO (io), 55 IO (io), 56 IO (io), 57 VSV (power), 58 VCCI (power), 59 IO (io), 60 IO (io), 61 IO (io), 62 IO (io), 63 IO (io), 64 IO (io), 65 IO (io), 66 IO (io), 67 VCCA (power), 68 GND/LP (power), 69 GND (power), 70 IO (io), 71 IO (io), 72 IO (io), 73 IO (io), 74 IO (io), 75 IO (io), 76 IO (io), 77 IO (io), 78 IO (io), 79 IO (io), 80 IO (io), 81 IO (io), 82 VCCI (power), 83 IO (io), 84 IO (io), 85 IO (io), 86 IO (io), 87 CLKA (in), 88 CLKB (in), 89 NC, 90 VCCA (power), 91 GND (power), 92 PRA/IO (io), 93 IO (io), 94 IO (io), 95 IO (io), 96 IO (io), 97 IO (io), 98 IO (io), 99 IO (io), 100 TCK/IO (io)

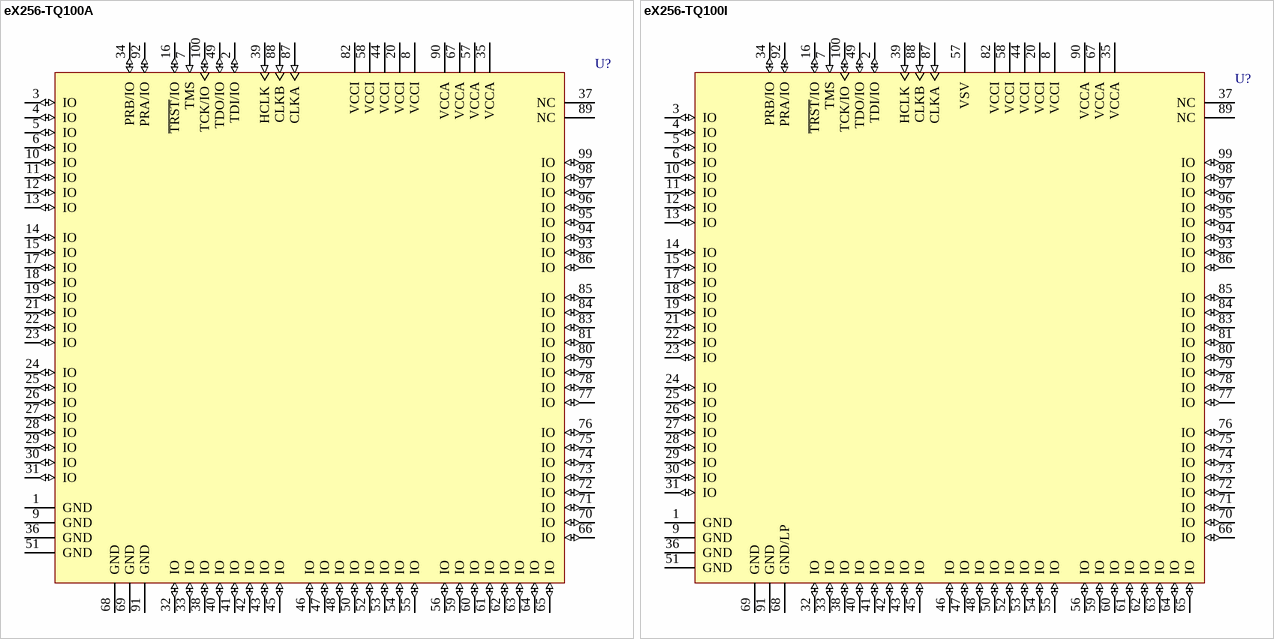
[diagram p15: symbols eX256-TQ100A to eX256-TQ100I]

## eX256-TQ100A
designator U?
eX256 FPGA, 81 User IOs, 100-Pin TQFP, Speed Grade Standard, Automotive Grade; Published: 17-Sep-2003; LatestRevisionDate: 13-Apr-2006; LatestRevisionNote: IPC-7351 Footprint Added.; DatasheetVersion: Apr-2003; PackageVersion: v9.2, Apr-2006; PackageReference: TQ100; Publisher: Altium Limited; PackageDescription: 100-Pin Plastic Quad Flat Pack (TQ100); Code_JEDEC: MS-026-BED; ComponentLink1Description: Manufacturer Link; ComponentLink1URL: http://www.actel.com/products/ex/index.html; ComponentLink2Description: Datasheet; ComponentLink2URL: http://www.actel.com/documents/eXDS.pdf
footprint TQ100_N (Thin QFP, 100-Leads, Body 14x14mm, Pitch 0.5mm, IPC Medium Density)
footprint TQ100_L (Thin QFP, 100-Leads, Body 14x14mm, Pitch 0.5mm, IPC High Density)
footprint TQ100_M (Thin QFP, 100-Leads, Body 14x14mm, Pitch 0.5mm, IPC Low Density)
3D model eX256-TQ100 (100-Pin Plastic Quad Flat Pack (TQ100))
pins: 1 GND (power), 2 TDI/IO (io), 3 IO (io), 4 IO (io), 5 IO (io), 6 IO (io), 7 TMS (in), 8 VCCI (power), 9 GND (power), 10 IO (io), 11 IO (io), 12 IO (io), 13 IO (io), 14 IO (io), 15 IO (io), 16 ~{TRST}/IO (io), 17 IO (io), 18 IO (io), 19 IO (io), 20 VCCI (power), 21 IO (io), 22 IO (io), 23 IO (io), 24 IO (io), 25 IO (io), 26 IO (io), 27 IO (io), 28 IO (io), 29 IO (io), 30 IO (io), 31 IO (io), 32 IO (io), 33 IO (io), 34 PRB/IO (io), 35 VCCA (power), 36 GND (power), 37 NC, 38 IO (io), 39 HCLK (in), 40 IO (io), 41 IO (io), 42 IO (io), 43 IO (io), 44 VCCI (power), 45 IO (io), 46 IO (io), 47 IO (io), 48 IO (io), 49 TDO/IO (io), 50 IO (io), 51 GND (power), 52 IO (io), 53 IO (io), 54 IO (io), 55 IO (io), 56 IO (io), 57 VCCA (power), 58 VCCI (power), 59 IO (io), 60 IO (io), 61 IO (io), 62 IO (io), 63 IO (io), 64 IO (io), 65 IO (io), 66 IO (io), 67 VCCA (power), 68 GND (power), 69 GND (power), 70 IO (io), 71 IO (io), 72 IO (io), 73 IO (io), 74 IO (io), 75 IO (io), 76 IO (io), 77 IO (io), 78 IO (io), 79 IO (io), 80 IO (io), 81 IO (io), 82 VCCI (power), 83 IO (io), 84 IO (io), 85 IO (io), 86 IO (io), 87 CLKA (in), 88 CLKB (in), 89 NC, 90 VCCA (power), 91 GND (power), 92 PRA/IO (io), 93 IO (io), 94 IO (io), 95 IO (io), 96 IO (io), 97 IO (io), 98 IO (io), 99 IO (io), 100 TCK/IO (io)

## eX256-TQ100I
designator U?
eX256 FPGA, 81 User IOs, 100-Pin TQFP, Speed Grade Standard, Industrial Grade; Note: The VSV pin can be tied to VCCA or VCCI but cannot exceed 3.6V.; Note: If the security fuse is programmed, the VSV limit is extended to 6.0V.; Published: 21-May-2003; LatestRevisionDate: 13-Apr-2006; LatestRevisionNote: IPC-7351 Footprint Added.; DatasheetVersion: Dec-2001; PackageVersion: v9.2, Apr-2006; PackageReference: TQ100; Publisher: Altium Limited; PackageDescription: 100-Pin Plastic Quad Flat Pack (TQ100); Code_JEDEC: MS-026-BED; ComponentLink1Description: Manufacturer Link; ComponentLink1URL: http://www.actel.com/products/ex/index.html; ComponentLink2Description: Datasheet; ComponentLink2URL: http://www.actel.com/documents/eXDS.pdf
footprint TQ100_N (Thin QFP, 100-Leads, Body 14x14mm, Pitch 0.5mm, IPC Medium Density)
footprint TQ100_L (Thin QFP, 100-Leads, Body 14x14mm, Pitch 0.5mm, IPC High Density)
footprint TQ100_M (Thin QFP, 100-Leads, Body 14x14mm, Pitch 0.5mm, IPC Low Density)
3D model eX256-TQ100 (100-Pin Plastic Quad Flat Pack (TQ100))
pins: 1 GND (power), 2 TDI/IO (io), 3 IO (io), 4 IO (io), 5 IO (io), 6 IO (io), 7 TMS (in), 8 VCCI (power), 9 GND (power), 10 IO (io), 11 IO (io), 12 IO (io), 13 IO (io), 14 IO (io), 15 IO (io), 16 ~{TRST}/IO (io), 17 IO (io), 18 IO (io), 19 IO (io), 20 VCCI (power), 21 IO (io), 22 IO (io), 23 IO (io), 24 IO (io), 25 IO (io), 26 IO (io), 27 IO (io), 28 IO (io), 29 IO (io), 30 IO (io), 31 IO (io), 32 IO (io), 33 IO (io), 34 PRB/IO (io), 35 VCCA (power), 36 GND (power), 37 NC, 38 IO (io), 39 HCLK (in), 40 IO (io), 41 IO (io), 42 IO (io), 43 IO (io), 44 VCCI (power), 45 IO (io), 46 IO (io), 47 IO (io), 48 IO (io), 49 TDO/IO (io), 50 IO (io), 51 GND (power), 52 IO (io), 53 IO (io), 54 IO (io), 55 IO (io), 56 IO (io), 57 VSV (power), 58 VCCI (power), 59 IO (io), 60 IO (io), 61 IO (io), 62 IO (io), 63 IO (io), 64 IO (io), 65 IO (io), 66 IO (io), 67 VCCA (power), 68 GND/LP (power), 69 GND (power), 70 IO (io), 71 IO (io), 72 IO (io), 73 IO (io), 74 IO (io), 75 IO (io), 76 IO (io), 77 IO (io), 78 IO (io), 79 IO (io), 80 IO (io), 81 IO (io), 82 VCCI (power), 83 IO (io), 84 IO (io), 85 IO (io), 86 IO (io), 87 CLKA (in), 88 CLKB (in), 89 NC, 90 VCCA (power), 91 GND (power), 92 PRA/IO (io), 93 IO (io), 94 IO (io), 95 IO (io), 96 IO (io), 97 IO (io), 98 IO (io), 99 IO (io), 100 TCK/IO (io)